# Altium footprint library STM32F103ZE.PcbLib: 28 footprints (part 2 of 2)
Each footprint in its own frame and in the unit in brackets; x right, y up, seen from the top. Pads: shape width x height; smd on the part's side, far side on the other; paste and mask are expansions set on the pad; w line width, h text height; cw(c..) or ccw(c..) is an arc to the next point about the centre after c.
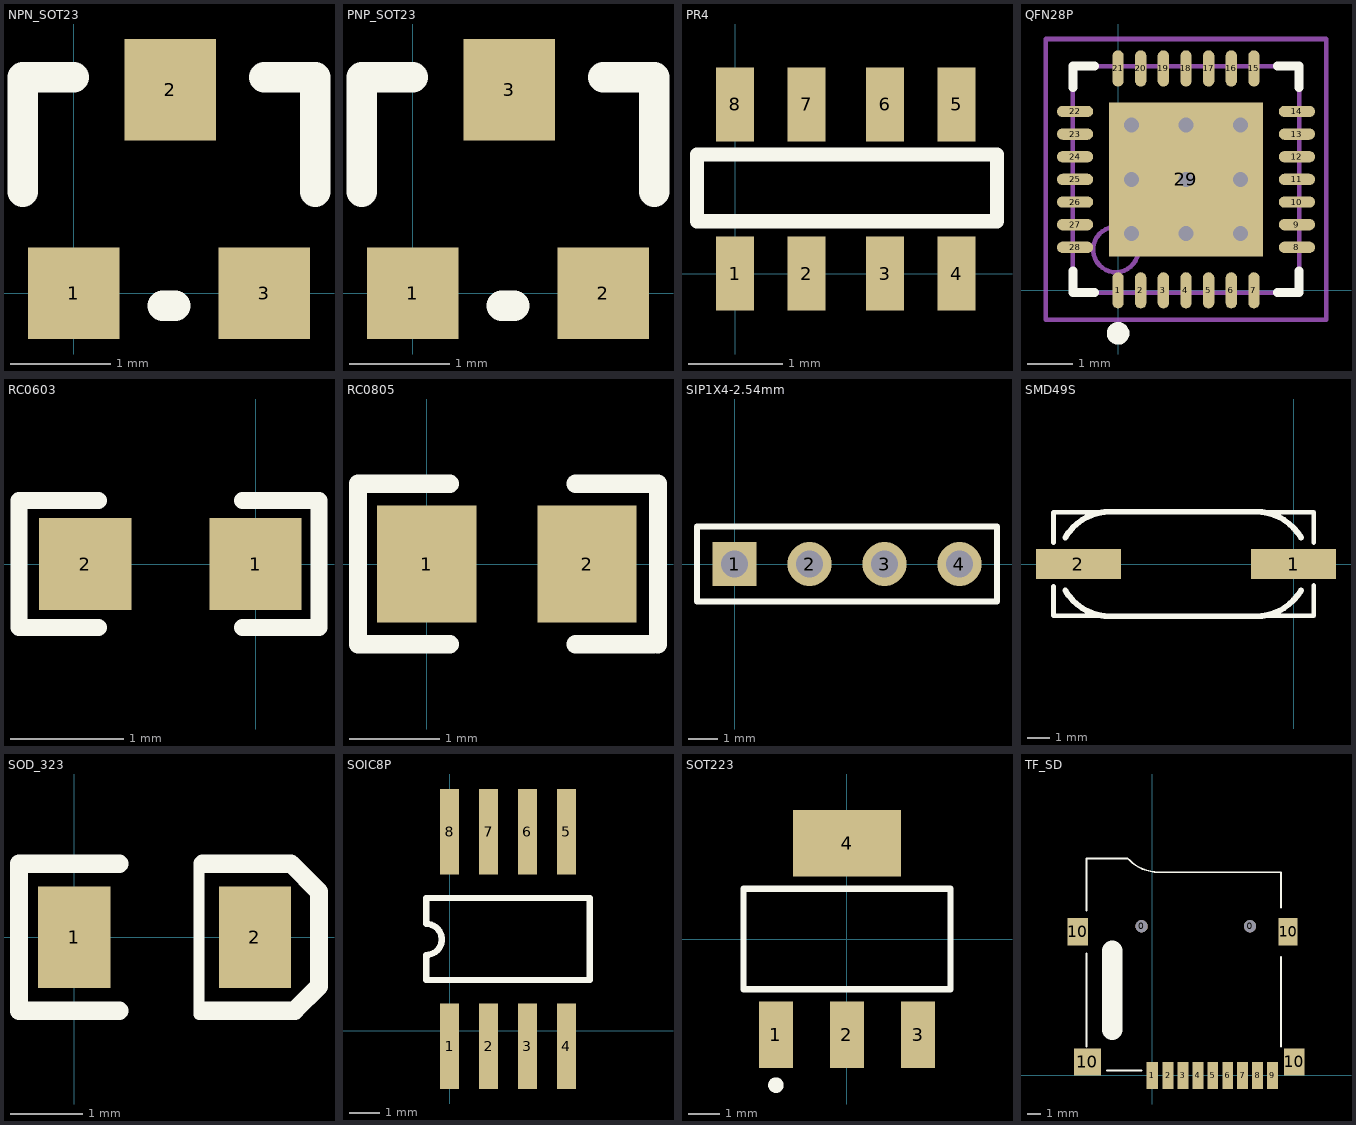
[diagram p1: the footprints below, top view; thin cyan lines are the x and y axes]

## NPN_SOT23 [mil]
pads (3):
  rect 36x36 smd: 1(0,0) 3(75,0)
  rect 36x40 smd: 2(38,80)
Top Overlay:
  lines w12: -20,40 -20,85 0,85 ; 35,-5 40,-5 ; 75,85 95,85 95,40

## PNP_SOT23 [mil]
pads (3):
  rect 36x36 smd: 1(0,0) 2(75,0)
  rect 36x40 smd: 3(38,80)
Top Overlay:
  lines w12: -20,40 -20,85 0,85 ; 35,-5 40,-5 ; 75,85 95,85 95,40

## PR4 [mil]
pads (8):
  rect 16x31 smd: 1(0,0) 2(30,0) 3(63,0) 4(93,0) 5(93,71) 6(63,71) 7(30,71) 8(0,71)
Top Overlay:
  lines w6: -16,22 110,22 110,50 -16,50 -16,22

## QFN28P [mm]
pads (29):
  oval 0.25x0.8 smd: 1(0,0) 2(0.5,0) 3(1,0) 4(1.5,0) 5(2,0) 6(2.5,0) 7(3,0) 15(3,4.9) 16(2.5,4.9) 17(2,4.9) 18(1.5,4.9) 19(1,4.9) 20(0.5,4.9) 21(0,4.9)
  oval 0.8x0.25 smd: 8(3.95,0.95) 9(3.95,1.45) 10(3.95,1.95) 11(3.95,2.45) 12(3.95,2.95) 13(3.95,3.45) 14(3.95,3.95) 22(-0.95,3.95) 23(-0.95,3.45) 24(-0.95,2.95) 25(-0.95,2.45) 26(-0.95,1.95) 27(-0.95,1.45) 28(-0.95,0.95)
  rect 3.4x3.4 smd: 29(1.5,2.45)
via 0.3,1.25 diameter 0.66 hole 0.33
via 0.3,2.45 diameter 0.66 hole 0.33
via 0.3,3.65 diameter 0.66 hole 0.33
via 1.5,1.25 diameter 0.66 hole 0.33
via 1.5,2.45 diameter 0.66 hole 0.33
via 1.5,3.65 diameter 0.66 hole 0.33
via 2.7,1.25 diameter 0.66 hole 0.33
via 2.7,2.45 diameter 0.66 hole 0.33
via 2.7,3.65 diameter 0.66 hole 0.33
Top Overlay:
  circle w0.25: c0,-0.95 r0.125
  lines w0.2: -1,0.425 -1,-0.05 -0.525,-0.05 ; -1,4.475 -1,4.95 -0.525,4.95 ; 3.525,-0.05 4,-0.05 4,0.425 ; 3.525,4.95 4,4.95 4,4.475
Mechanical 13:
  circle w0.1: c-0.05,0.9 r0.5
  lines w0.1: -1,-0.05 4,-0.05 4,4.95 -1,4.95 -1,-0.05
Mechanical 15:
  lines w0.1: 1,2.45 2,2.45 ; 1.5,1.95 1.5,2.95 ; -1.6,-0.65 4.6,-0.65 4.6,5.55 -1.6,5.55 -1.6,-0.65
3D body: height 1, standoff 0.01, extent -1,-0.05 4,4.95

## RC0603 [mil]
height 100
pads (2):
  rect 32x32 smd: 1(0,0) 2(-59,0)
Top Overlay:
  lines w6: -54.5,-22 -82,-22 -82,22 -54.5,22 ; -4.5,-22 22,-22 22,22 -4.5,22

## RC0805 [mm]
pads (2):
  rect 1.1x1.3 smd: 1(0,0) 2(1.778,0)
Top Overlay:
  lines w0.203: 0.254,-0.889 -0.762,-0.889 -0.762,0.889 0.254,0.889 ; 1.651,-0.889 2.515,-0.889 ; 1.651,0.889 2.565,0.889 2.565,-0.889

## SIP1X4-2.54mm [mm]
pads (4):
  rect 1.5x1.5 hole 0.9: 1(0,0)
  round 1.5 hole 0.9: 2(2.54,0) 3(5.08,0) 4(7.62,0)
Top Overlay:
  lines w0.2: -1.27,-1.27 -1.27,1.27 8.89,1.27 8.89,-1.27 -1.27,-1.27

## SMD49S [mil]
pads (2):
  rect 146x51 smd: 1(0,0) 2(-370,0)
Top Overlay:
  lines w8: -413,-38 -413,-89 35,-89 35,-37 ; -413,37 -413,89 35,89 35,37
  lines w10: -392.57,-45.63 ccw(c-315,0) -315,-90 -55,-90 ; -392.57,45.63 cw(c-315,0) -315,90 -65,90 cw(c-65,0) 12.57,45.63 ; -65,-90 ccw(c-65,0) 12.57,-45.63

## SOD_323 [mm]
pads (2):
  rect 1x1.4 smd: 1(0,0) 2(2.5,0)
Top Overlay:
  lines w0.152: 1.727,-1.067 1.727,0.965
  lines w0.254: 0.624,-1.016 -0.762,-1.016 -0.762,1.016 0.624,1.016 ; 1.778,-1.016 3.048,-1.016 3.385,-0.679 3.385,0.628 2.997,1.016 1.778,1.016

## SOIC8P [mil]
height 220.47
pads (8):
  rect 24x110 smd: 1(0,-20) 2(50,-20) 3(100,-20) 4(150,-20) 5(150,255) 6(100,255) 7(50,255) 8(0,255)
Top Overlay:
  lines w8: -30,65 180,65 180,170 -30,170 -30,137 cw(c-30,117) -30,97 -30,65

## SOT223 [mm] "SOT-223/SC-73; 4 Leads; Body 6.7 x 7.3 mm, inc. leads (LxW max)"
height 1.8
pads (4):
  rect 1.1x2.15 smd: 1(-2.3,-3.1) 2(0,-3.1) 3(2.3,-3.1)
  rect 3.5x2.15 smd: 4(0,3.1)
Top Overlay:
  circle w0.25: c-2.3,-4.725 r0.125
  lines w0.2: -3.35,-1.625 3.35,-1.625 3.35,1.625 -3.35,1.625 -3.35,-1.625

## TF_SD [mm]
pads (15):
  round 0.9 hole 0.9 unplated: 0(-0.8,11) 0(7.2,11)
  rect 0.85x2 smd: 1(0,0)
  rect 0.8x2 smd: 2(1.15,0) 3(2.25,0) 4(3.35,0) 5(4.45,0) 6(5.55,0) 7(6.65,0) 8(7.75,0) 9(8.85,0)
  rect 1.5x2 smd: 10(-5.5,10.6) 10(10.45,1)
  rect 2x2 smd: 10(-4.8,1)
  rect 1.4x2 smd: 10(10,10.6)
Top Overlay:
  lines w0.127: -4.865,12.143 -4.865,15 ; -4.865,14.683 -4.865,16 -1.816,16 -1.714,15.898 ccw(c0.454,18.066) 0.454,15 1.74,15 9.486,15 9.486,12.397 ; -4.862,2.138 -4.862,8.996 ; 9.489,2.138 9.489,8.742
  lines w0.15: -3.338,0.36 -0.798,0.36
  lines w1.5: -2.959,3.38 -2.959,9.222